# Altium footprint library Motherboard V2.0.PcbLib: 29 footprints (part 1 of 2)
Each footprint in its own frame and in the unit in brackets; x right, y up, seen from the top. Pads: shape width x height; smd on the part's side, far side on the other; paste and mask are expansions set on the pad; w line width, h text height; cw(c..) or ccw(c..) is an arc to the next point about the centre after c.
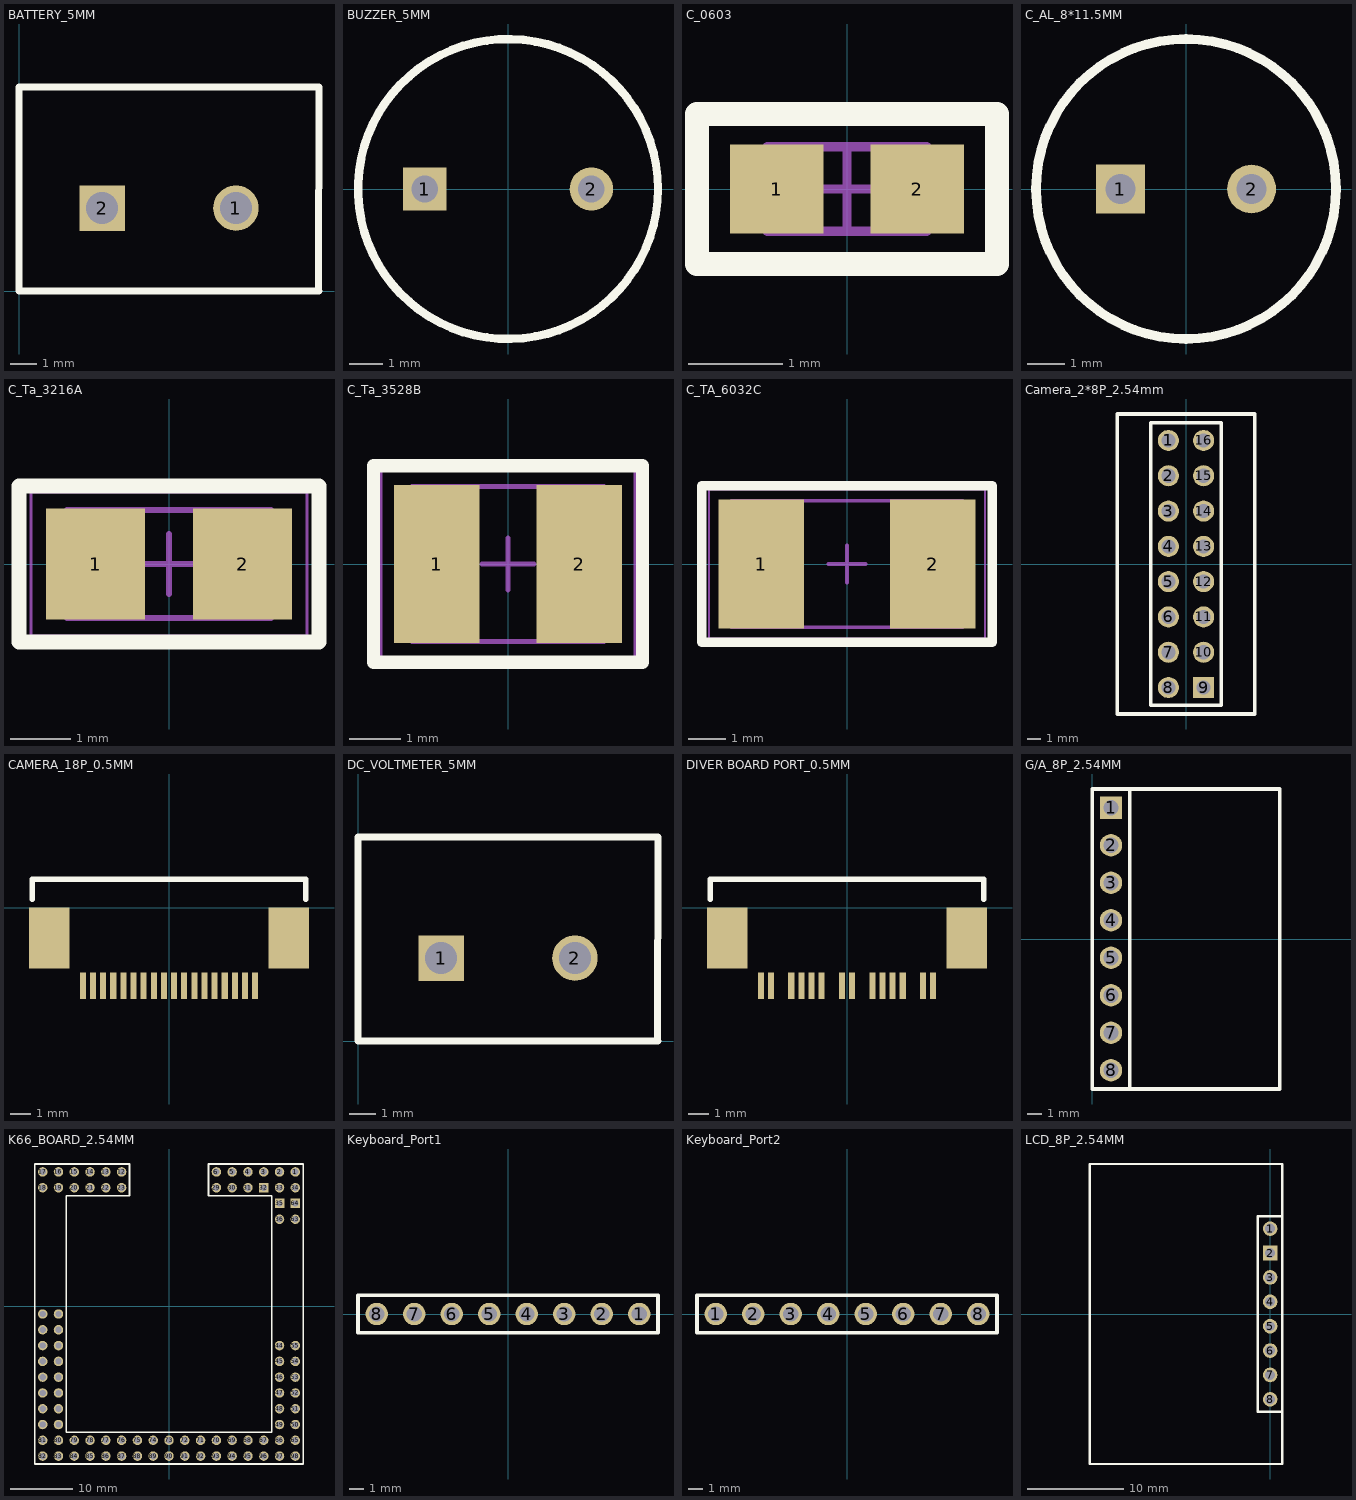
[diagram p0: the footprints below, top view; thin cyan lines are the x and y axes]

## BATTERY_5MM [mm]
pads (2):
  round 1.7 hole 1.2: 1(8.1,3.1)
  rect 1.7x1.7 hole 1.2: 2(3.1,3.1)
Top Overlay:
  lines w0.254: 0,7.6 0,0 11.2,0 ; 0,7.62 11.2,7.62 ; 11.176,0 11.2,7.6
3D body "PHOENIX CONTACT_2P_5mm_10mm.stp": height 10, standoff -3.5, extent 0.03,-0.975 10.6,7.175

## BUZZER_5MM [mm]
pads (2):
  rect 1.3x1.3 hole 0.8: 1(-2.5,0)
  round 1.3 hole 0.8: 2(2.5,0)
Top Overlay:
  circle w0.254: c0,0 r4.5
3D body "User Library-Buzzer_9mm.STEP": height 5.6, standoff -5.4, extent -4.55,-4.55 4.55,4.55

## C_0603 [mm]
pads (2):
  rect 1x0.95 smd: 1(-0.75,0) 2(0.75,0)
Top Overlay:
  lines w0.254: -1.6,-0.8 -1.6,0.8 1.6,0.8 1.6,-0.8 -1.6,-0.8
Assembly Top:
  lines w0.1: -0.85,-0.45 0.85,-0.45 0.85,0.45 -0.85,0.45 -0.85,-0.45
Courtyard Top:
  lines w0.05: -1.5,-0.75 1.5,-0.75 1.5,0.75 -1.5,0.75 -1.5,-0.75
  lines w0.1: -0.45,0 0.45,0 ; 0,-0.45 0,0.45
3D body "C_0603.STEP": height 0.9, standoff 0, extent -0.8,-0.4 0.8,0.4

## C_AL_8*11.5MM [mm]
pads (2):
  rect 1.3x1.3 hole 0.8: 1(-1.75,0)
  round 1.3 hole 0.8: 2(1.75,0)
Top Overlay:
  circle w0.254: c0,0 r4
3D body: height 0.45, standoff 0, extent 17.5,-1.2 17.5,-1.2
3D body "8x11.5_Lead.stp": height 11.5, standoff -19, extent -4,-3.997 4,3.998
3D body: height 0.45, standoff 0, extent 0,-1.27 0,-1.27

## C_Ta_3216A [mm]
pads (2):
  rect 1.65x1.85 smd: 1(-1.225,0) 2(1.225,0)
Top Overlay:
  lines w0.254: -2.5,-1.3 -2.5,1.3 2.5,1.3 2.5,-1.3 -2.5,-1.3
Assembly Top:
  lines w0.1: -1.7,-0.9 1.7,-0.9 1.7,0.9 -1.7,0.9 -1.7,-0.9
Courtyard Top:
  lines w0.05: -2.3,-1.2 2.3,-1.2 2.3,1.2 -2.3,1.2 -2.3,-1.2
  lines w0.1: -0.5,0 0.5,0 ; 0,-0.5 0,0.5
3D body "CaseA_3216.STEP": height 1.6, standoff 0, extent -1.6,-0.8 1.6,0.8

## C_Ta_3528B [mm]
height 1.9
pads (2):
  rect 1.65x3.05 smd: 1(-1.375,0) 2(1.375,0)
Top Overlay:
  lines w0.254: -2.6,-1.9 -2.6,1.9 2.6,1.9 2.6,-1.9 -2.6,-1.9
Assembly Top:
  lines w0.1: -1.85,-1.5 1.85,-1.5 1.85,1.5 -1.85,1.5 -1.85,-1.5
Courtyard Top:
  lines w0.05: -2.45,-1.8 2.45,-1.8 2.45,1.8 -2.45,1.8 -2.45,-1.8
  lines w0.1: -0.5,0 0.5,0 ; 0,-0.5 0,0.5
3D body "CaseB_3528.STEP": height 1.9, standoff 0, extent -1.77,-1.4 1.73,1.4

## C_TA_6032C [mm]
height 2.6
pads (2):
  rect 2.3x3.45 smd: 1(-2.3,0) 2(2.3,0)
Top Overlay:
  lines w0.254: -3.9,-2.1 3.9,-2.1 3.9,2.1 -3.9,2.1 -3.9,-2.1
Assembly Top:
  lines w0.1: -3.1,-1.7 3.1,-1.7 3.1,1.7 -3.1,1.7 -3.1,-1.7
Courtyard Top:
  lines w0.05: -3.7,-2 3.7,-2 3.7,2 -3.7,2 -3.7,-2
  lines w0.1: -0.5,0 0.5,0 ; 0,-0.5 0,0.5
3D body "CaseC_6032.STEP": height 2.5, standoff 0, extent -2.97,-1.6 3.03,1.6

## Camera_2*8P_2.54mm [mm]
pads (16):
  round 1.52 hole 1.02: 1(-1.27,8.89) 2(-1.27,6.35) 3(-1.27,3.81) 4(-1.27,1.27) 5(-1.27,-1.27) 6(-1.27,-3.81) 7(-1.27,-6.35) 8(-1.27,-8.89) 10(1.27,-6.35) 11(1.27,-3.81) 12(1.27,-1.27) 13(1.27,1.27) 14(1.27,3.81) 15(1.27,6.35) 16(1.27,8.89)
  rect 1.52x1.52 hole 1.02: 9(1.27,-8.89)
Top Overlay:
  lines w0.254: -4.953,-10.795 -4.953,10.795 4.953,10.795 4.953,-10.795 -4.953,-10.795 ; -2.54,-10.16 -2.54,10.16 2.54,10.16 2.54,-10.16 -2.54,-10.16
3D body "s4.STEP": height 8.4, standoff -3.15, extent 0.04,-10.16 2.54,0
3D body "s4.STEP": height 8.4, standoff -3.15, extent -2.5,-10.16 0,0
3D body "s4.STEP": height 8.4, standoff -3.15, extent 0.04,0 2.54,10.16
3D body "s4.STEP": height 8.4, standoff -3.15, extent -2.5,0 0,10.16

## CAMERA_18P_0.5MM [mm]
pads (20):
  rect 0.3x1.3 smd: 1(-4.25,-3.85) 2(-3.75,-3.85) 3(-3.25,-3.85) 4(-2.75,-3.85) 5(-2.25,-3.85) 6(-1.75,-3.85) 7(-1.25,-3.85) 8(-0.75,-3.85) 9(-0.25,-3.85) 10(0.25,-3.85) 11(0.75,-3.85) 12(1.25,-3.85) 13(1.75,-3.85) 14(2.25,-3.85) 15(2.75,-3.85) 16(3.25,-3.85) 17(3.75,-3.85) 18(4.25,-3.85)
  rect 2x3 smd: ""(-5.9,-1.5) ""(5.9,-1.5)
Top Overlay:
  lines w0.254: -6.75,0.4 -6.75,1.4 6.75,1.4 6.75,0.4
3D body "FPC-18P_0.5mm.STEP": height 2.2, standoff -0.05, extent -6.55,-3.81 6.55,2.689

## DC_VOLTMETER_5MM [mm]
pads (2):
  rect 1.7x1.7 hole 1.2: 1(3.1,3.1)
  round 1.7 hole 1.2: 2(8.1,3.1)
Top Overlay:
  lines w0.254: 0,7.6 0,0 11.2,0 ; 0,7.62 11.2,7.62 ; 11.176,0 11.2,7.6
3D body "PHOENIX CONTACT_2P_5mm_10mm.stp": height 10, standoff -3.5, extent 0.03,-0.975 10.6,7.175

## DIVER BOARD PORT_0.5MM [mm]
pads (16):
  rect 0.3x1.3 smd: 1(-4.25,-3.85) 2(-3.75,-3.85) 4(-2.75,-3.85) 5(-2.25,-3.85) 6(-1.75,-3.85) 7(-1.25,-3.85) 9(-0.25,-3.85) 10(0.25,-3.85) 12(1.25,-3.85) 13(1.75,-3.85) 14(2.25,-3.85) 15(2.75,-3.85) 17(3.75,-3.85) 18(4.25,-3.85)
  rect 2x3 smd: ""(-5.9,-1.5) ""(5.9,-1.5)
Top Overlay:
  lines w0.254: -6.75,0.4 -6.75,1.4 6.75,1.4 6.75,0.4
3D body "FPC-18P_0.5mm.STEP": height 2.2, standoff -0.05, extent -6.55,-3.81 6.55,2.689

## G/A_8P_2.54MM [mm]
pads (8):
  rect 1.52x1.52 hole 1.02: 1(1.27,8.89)
  round 1.52 hole 1.02: 2(1.27,6.35) 3(1.27,3.81) 4(1.27,1.27) 5(1.27,-1.27) 6(1.27,-3.81) 7(1.27,-6.35) 8(1.27,-8.89)
Top Overlay:
  lines w0.254: 2.54,-10.16 2.54,10.16 ; 0,-10.16 12.7,-10.16 12.7,10.16 0,10.16 0,-10.16
3D body "s4.STEP": height 8.4, standoff -3.15, extent 0.04,-10.16 2.54,0
3D body "s4.STEP": height 8.4, standoff -3.15, extent 0.04,0 2.54,10.16

## K66_BOARD_2.54MM [mm]
pads (90):
  round 1.52 hole 1.02: 1(20.32,21.59) 2(17.78,21.59) 3(15.24,21.59) 4(12.7,21.59) 5(10.16,21.59) 6(7.62,21.59) 12(-7.62,21.59) 13(-10.16,21.59) 14(-12.7,21.59) 15(-15.24,21.59) 16(-17.78,21.59) 17(-20.32,21.59) 18(-20.32,19.05) 19(-17.78,19.05) 20(-15.24,19.05) 21(-12.7,19.05) 22(-10.16,19.05) 23(-7.62,19.05) 29(7.62,19.05) 30(10.16,19.05) 31(12.7,19.05) 33(17.78,19.05) 34(20.32,19.05) 36(17.78,13.97) 44(17.78,-6.35) 45(17.78,-8.89) 46(17.78,-11.43) 47(17.78,-13.97) 48(17.78,-16.51) 49(17.78,-19.05) 50(20.32,-19.05) 51(20.32,-16.51) 52(20.32,-13.97) 53(20.32,-11.43) 54(20.32,-8.89) 55(20.32,-6.35) 63(20.32,13.97) 65(20.32,-21.59) 66(17.78,-21.59) 67(15.24,-21.59) 68(12.7,-21.59) 69(10.16,-21.59) 70(7.62,-21.59) 71(5.08,-21.59) 72(2.54,-21.59) 73(0,-21.59) 74(-2.54,-21.59) 75(-5.08,-21.59) 76(-7.62,-21.59) 77(-10.16,-21.59) 78(-12.7,-21.59) 79(-15.24,-21.59) 80(-17.78,-21.59) 81(-20.32,-21.59) 82(-20.32,-24.13) 83(-17.78,-24.13) 84(-15.24,-24.13) 85(-12.7,-24.13) 86(-10.16,-24.13) 87(-7.62,-24.13) 88(-5.08,-24.13) 89(-2.54,-24.13) 90(0,-24.13) 91(2.54,-24.13) 92(5.08,-24.13) 93(7.62,-24.13) 94(10.16,-24.13) 95(12.7,-24.13) 96(15.24,-24.13) 97(17.78,-24.13) 98(20.32,-24.13) 106(-20.32,-1.27) 107(-20.32,-3.81) 108(-20.32,-6.35) 109(-20.32,-8.89) 110(-20.32,-11.43) 111(-20.32,-13.97) 112(-20.32,-16.51) 113(-20.32,-19.05) 114(-17.78,-19.05) 115(-17.78,-16.51) 116(-17.78,-13.97) 117(-17.78,-11.43) 118(-17.78,-8.89) 119(-17.78,-6.35) 120(-17.78,-3.81) 121(-17.78,-1.27)
  rect 1.52x1.52 hole 1.02: 32(15.24,19.05) 35(17.78,16.51) 64(20.32,16.51)
Top Overlay:
  lines w0.254: -21.59,-25.4 21.59,-25.4 21.59,22.86 6.35,22.86 6.35,17.78 16.51,17.78 16.51,-20.32 -16.51,-20.32 -16.51,17.78 -6.35,17.78 -6.35,22.86 -21.59,22.86 -21.59,-25.4
3D body "s2.STEP": height 8.4, standoff -3.15, extent -21.59,-22.82 -16.51,-20.32
3D body: height 0.45, standoff 0, extent -30.48,2.54 -30.48,2.54
3D body "s5.STEP": height 8.4, standoff -3.15, extent -3.81,-25.36 8.89,-22.86
3D body "s5.STEP": height 8.4, standoff -3.15, extent 8.89,-25.36 21.59,-22.86
3D body "s5.STEP": height 8.4, standoff -3.15, extent 8.89,-22.82 21.59,-20.32
3D body "s5.STEP": height 8.4, standoff -3.15, extent -3.81,-22.82 8.89,-20.32
3D body "s5.STEP": height 8.4, standoff -3.15, extent -16.51,-22.82 -3.81,-20.32
3D body "s5.STEP": height 8.4, standoff -3.15, extent -16.51,-25.36 -3.81,-22.86
3D body "s2.STEP": height 8.4, standoff -3.15, extent -21.59,-25.36 -16.51,-22.86
3D body "s2.STEP": height 8.4, standoff -3.15, extent -21.59,17.78 -19.09,22.86
3D body "s5.STEP": height 8.4, standoff -3.15, extent -19.05,20.36 -6.35,22.86
3D body "s5.STEP": height 8.4, standoff -3.15, extent -19.05,17.82 -6.35,20.32
3D body "s5.STEP": height 8.4, standoff -3.15, extent -21.59,-20.32 -19.09,-7.62
3D body "s5.STEP": height 8.4, standoff -3.15, extent -19.05,-20.32 -16.55,-7.62
3D body "s4.STEP": height 8.4, standoff -3.15, extent 6.35,20.36 16.51,22.86
3D body "s4.STEP": height 8.4, standoff -3.15, extent 6.35,17.82 16.51,20.32
3D body "s4.STEP": height 8.4, standoff -3.15, extent 19.05,12.7 21.55,22.86
3D body "s4.STEP": height 8.4, standoff -3.15, extent 16.51,12.7 19.01,22.86
3D body "s3.STEP": height 8.4, standoff -3.15, extent 16.51,-20.32 19.01,-12.7
3D body "s3.STEP": height 8.4, standoff -3.15, extent 19.05,-20.32 21.55,-12.7
3D body "s3.STEP": height 8.4, standoff -3.15, extent -19.05,-7.62 -16.55,0
3D body "s3.STEP": height 8.4, standoff -3.15, extent -21.59,-7.62 -19.09,0
3D body "s3.STEP": height 8.4, standoff -3.15, extent 16.51,-12.7 19.01,-5.08
3D body "s3.STEP": height 8.4, standoff -3.15, extent 19.05,-12.7 21.55,-5.08

## Keyboard_Port1 [mm]
pads (8):
  round 1.52 hole 1.02: 1(8.89,0) 2(6.35,0) 3(3.81,0) 4(1.27,0) 5(-1.27,0) 6(-3.81,0) 7(-6.35,0) 8(-8.89,0)
Top Overlay:
  lines w0.254: -10.16,-1.27 10.16,-1.27 10.16,1.27 -10.16,1.27 -10.16,-1.27
3D body "s4.STEP": height 8.4, standoff -3.15, extent 0,-1.27 10.16,1.23
3D body "s4.STEP": height 8.4, standoff -3.15, extent -10.16,-1.27 0,1.23

## Keyboard_Port2 [mm]
pads (8):
  round 1.52 hole 1.02: 1(-8.89,0) 2(-6.35,0) 3(-3.81,0) 4(-1.27,0) 5(1.27,0) 6(3.81,0) 7(6.35,0) 8(8.89,0)
Top Overlay:
  lines w0.254: -10.16,-1.27 -10.16,1.27 10.16,1.27 10.16,-1.27 -10.16,-1.27
3D body "s4.STEP": height 8.4, standoff -3.15, extent -10.16,-1.23 0,1.27
3D body "s4.STEP": height 8.4, standoff -3.15, extent 0,-1.23 10.16,1.27

## LCD_8P_2.54MM [mm]
pads (8):
  round 1.52 hole 1.02: 1(0,8.89) 3(0,3.81) 4(0,1.27) 5(0,-1.27) 6(0,-3.81) 7(0,-6.35) 8(0,-8.89)
  rect 1.52x1.52 hole 1.02: 2(0,6.35)
Top Overlay:
  lines w0.254: 1.27,-10.16 -1.27,-10.16 -1.27,10.16 1.27,10.16 ; -18.796,-15.621 -18.796,15.621 1.27,15.621 1.27,-15.621 -18.796,-15.621
3D body "s4.STEP": height 8.4, standoff -3.15, extent -1.23,-10.16 1.27,0
3D body "s4.STEP": height 8.4, standoff -3.15, extent -1.23,0 1.27,10.16